# Altium schematic symbol library LISC-XC95144XL.SCHLIB: 17 symbols
Pins are listed as number, name and electrical type; pins without a type are passive.

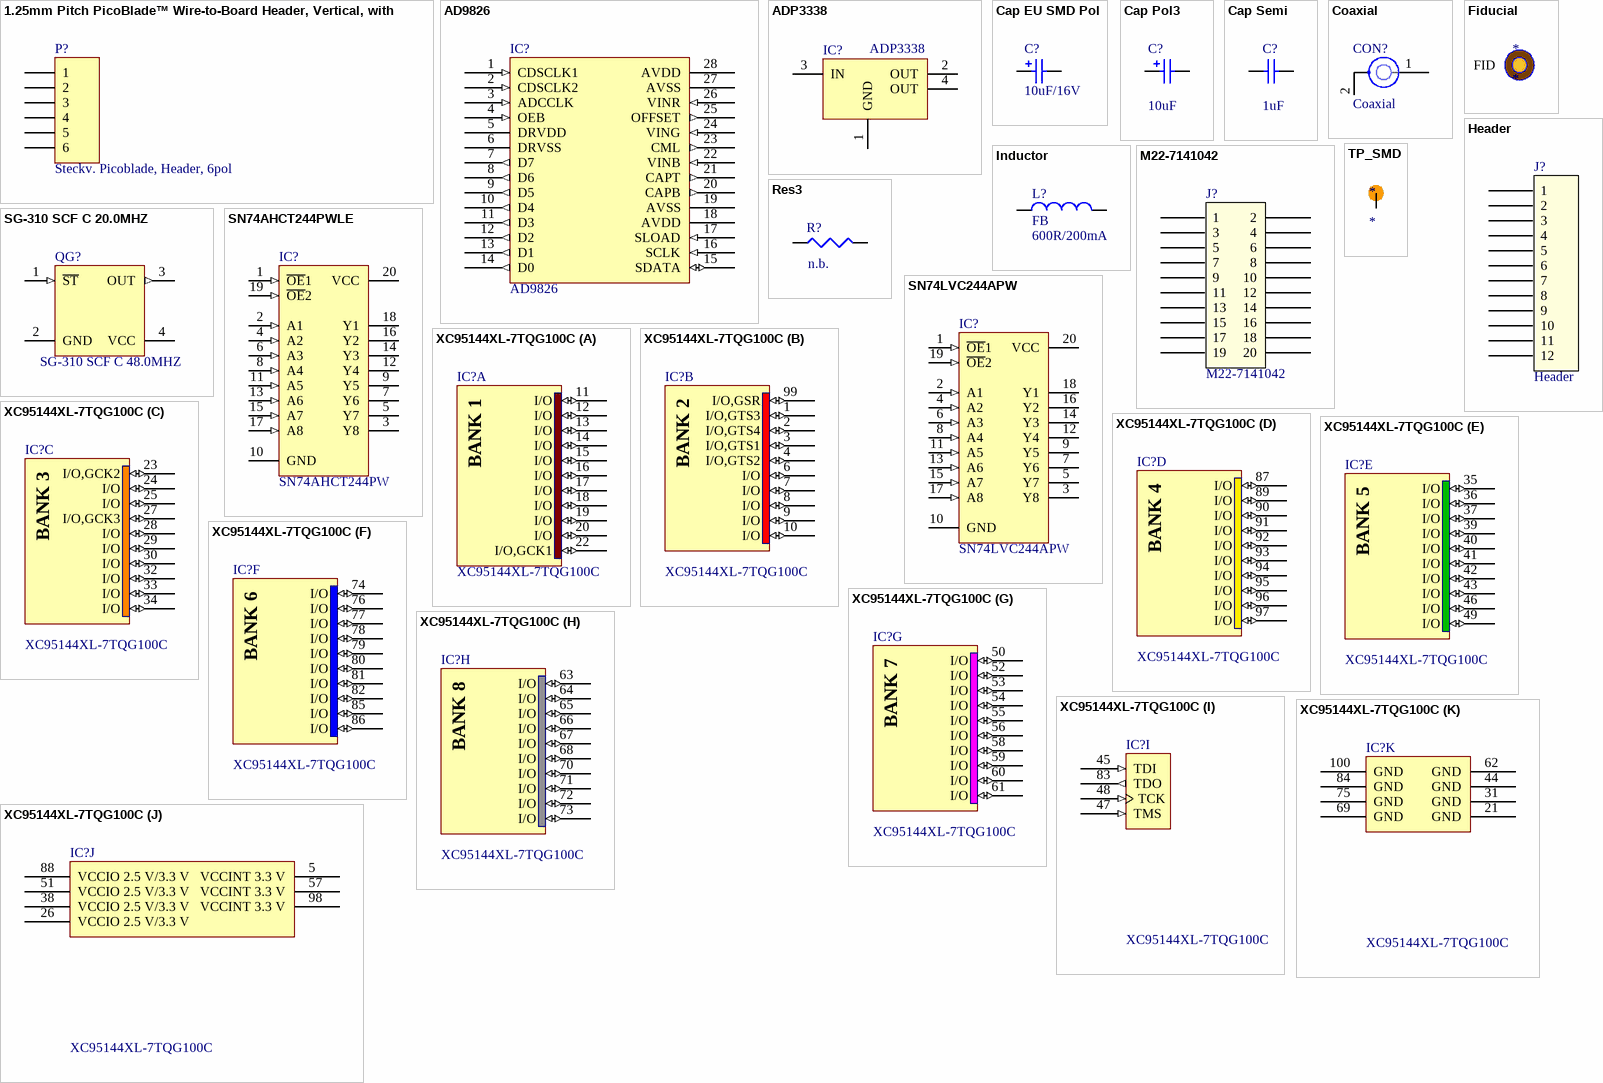
[diagram p0: symbols 1.25mm Pitch PicoBlade™ Wire-to-Board Header, Vertical, with Friction Lock, 6 Circuits to XC95144XL-7TQG100C]

## 1.25mm Pitch PicoBlade™ Wire-to-Board Header, Vertical, with Friction Lock, 6 Circuits
designator P?, comment Steckv. Picoblade, Header, 6pol
MOLEX - 53047-0610 - STECKER,VERTIKAL,6KONT; Steckverbindertyp: Draht zu Platine; Kontaktanschluss: Durchsteckmontage, vertikal; Kontakte, Anzahl der: 6; Reihen, Anzahl der: 1; Raster: 1.25; Kontaktüberzug: Zinn; Kontaktmaterial: Phosphor-Bronze; Anschlussart: Lötmittel; Gehäusetyp: GF Nylon UL94V-0; Isolations-Widerstand: 100; Länge/Höhe, Außen-: 3.5; Min Betriebstemperatur: -40; Spannung, Betriebs-: 125; Spannung, Steh-: 250; Temperatur, Betriebs- max.: 85; Tiefe, Außen: 5.5; Supplier 1: Farnell; Manufacturer: MOLEX; Manufacturer Part Number: 53047-0610; RoHS: YES; Stock 1: 35787; Pricing 1: 5=0,673, 100=0,42, 250=0,358, 500=0,34, 1000=0,311 (EUR); Serie: PicoBlade; Gender: Header; Anschlusstyp: Draht zu Platine; Body Plating: Zinn; Nennstrom: 1; Pole, Anzahl der: 6; Raster, Anschluss: 1.25; Spannung, Nenn-, AC: 125; Wege, Anzahl der: 6; ComponentLink1URL: http://www.farnell.com/cad/694680.pdf; ComponentLink1Description: http://www.farnell.com/cad/694680.pdf; ComponentLink2URL: http://www.farnell.com/datasheets/524695.pdf; ComponentLink2Description: http://www.farnell.com/datasheets/524695.pdf; Supplier Part Number 1: 9733078
footprint PicoBlade Header 6Pin gerade (Steckv. PicoBlade Header 6polig gerade)
pins: 1, 2, 3, 4, 5, 6

## AD9826
designator IC?
footprint SOP65P780-28AM (SOP, 28-Leads, Body 10.2x5.3mm, Pitch 0.65mm, IPC Low Density)
pins: 1 CDSCLK1 (in), 2 CDSCLK2 (in), 3 ADCCLK (in), 4 OEB (in), 5 DRVDD (power), 6 DRVSS (power), 7 D7 (out), 8 D6 (out), 9 D5 (out), 10 D4 (out), 11 D3 (out), 12 D2 (out), 13 D1 (out), 14 D0 (out), 15 SDATA (io), 16 SCLK (in), 17 SLOAD (in), 18 AVDD (power), 19 AVSS (power), 20 CAPB (out), 21 CAPT (out), 22 VINB (in), 23 CML (out), 24 VING (in), 25 OFFSET (out), 26 VINR (in), 27 AVSS (power), 28 AVDD (power)

## ADP3338
designator IC?
High Accuracy, Ultralow IQ, 1 A,  anyCAP® Low Dropout Regulator; Value: ADP3338; Supplier 1: Farnell; Supplier Part Number 1: 1651283
footprint SOT223-4L (SOT223, 4-Leads, Body 6.5x3.5mm, Pitch 2.3mm, Lead Span 7mm, IPC High Density)
pins: 1 GND (power), 2 OUT (power), 3 IN (power), 4 OUT (power)

## Cap EU SMD Pol
designator C?, comment 10uF/16V
Polarized Capacitor (Surface Mount); Value: 10uF; Published: 8-Jun-2000; LatestRevisionDate: 29-May-2009; LatestRevisionNote: IPC-7351 Footprint Added.; PackageReference: C0805; Publisher: Altium Limited; PackageDescription: Chip Capacitor
simulation model CAP (Capacitor)
signal-integrity model Cap Pol
footprint Cap Pol SMD Ø6,3x3,9 (Kondensator Pol SMD Ø6,3mmx3,9mm)
footprint C1210 Pol (Chip Capacitor Pol, Body 3.2x2.5mm, IPC High Density)
pins: 1, 2
1 alternate drawing of the same symbol

## Cap Pol3
designator C?  value 10uF
Polarized Capacitor (Surface Mount); Published: 8-Jun-2000; LatestRevisionDate: 29-May-2009; LatestRevisionNote: IPC-7351 Footprint Added.; PackageReference: C0805; Publisher: Altium Limited; PackageDescription: Chip Capacitor
footprint C0805 (Chip Capacitor, Body 2.0x1.3mm, IPC High Density)
footprint 1812 (Chip Capacitor, Body 4.5x3.2mm, IPC High Density)
footprint 1825 (Chip Capacitor, Body 4.5x6.4mm, IPC High Density)
footprint C2225 (Chip Capacitor, Body 5.7x6.4mm, IPC High Density)
footprint 2220 (Chip Capacitor, Body 5.7x5.0mm, IPC High Density)
simulation model CAP (Capacitor)
signal-integrity model Cap Pol
pins: 1, 2
1 alternate drawing of the same symbol

## Cap Semi
designator C?  value 1uF
Capacitor (Semiconductor SIM Model); Published: 8-Jun-2000; LatestRevisionDate: 29-May-2009; LatestRevisionNote: IPC-7351 Footprint Added.; PackageReference: C1206; Publisher: Altium Limited; PackageDescription: Chip Capacitor
footprint C1206 (Chip Capacitor, Body 3.2x1.6mm, IPC High Density)
footprint 0402 (Chip Capacitor, Body 1.0x0.5mm, IPC High Density)
footprint C2512 (Chip Capacitor, Body 2.54x1.27mm, IPC High Density)
footprint 1608[0603] (Chip Capacitor, Body 1.6x0.8mm, IPC High Density)
footprint C1210 (Chip Capacitor, Body 3.2x2.5mm, IPC High Density)
simulation model CAP (Semiconductor Capacitor)
signal-integrity model Cap Semi
pins: 1, 2

## Coaxial
designator CON?
footprint U.FL-R-SMT
pins: 1, 2

## Fiducial
designator *
footprint FIDUCIAL_ROUND_1MM (Round, 1mm dia)
pins: FID (in)

## Header
designator J?
Molex Picoflex 12pol.
footprint Molex_Picoflex_12
pins: 1, 2, 3, 4, 5, 6, 7, 8, 9, 10, 11, 12

## Inductor
designator L?, comment FB  value 600R/200mA
Inductor; Code_IEC: 1005; Published: 8-Jun-2000; LatestRevisionDate: 29-May-2009; LatestRevisionNote: IPC-7351 Footprint Added.; PackageReference: 0402-A; Publisher: Altium Limited; PackageDescription: Chip Inductor; Code_JEITA: 0402
footprint 0402-A (Chip Inductor, Body 1.0x0.5mm, IPC High Density)
footprint INDC1608L (Chip Inductor, Body 1.6x0.8mm, IPC High Density)
footprint 2029 (Chip Inductor, Body 2.0x1.2mm, IPC High Density)
footprint 0603 (Chip Inductor, Body 0.6x0.3mm, IPC High Density)
footprint INDC3216 (Chip Inductor, Body 3.2x1.6mm, IPC High Density)
footprint INDC4532 (Chip Inductor, Body 4.5x3.2mm, IPC High Density)
simulation model INDUCTOR (Inductor)
signal-integrity model Inductor
pins: 1, 2

## M22-7141042
designator J?
Harwig M22-7141042
footprint PCBComponent_1
pins: 1, 2, 3, 4, 5, 6, 7, 8, 9, 10, 11, 12, 13, 14, 15, 16, 17, 18, 19, 20

## Res3
designator R?  value n.b.
Resistor; Published: 8-Jun-2000; LatestRevisionDate: 29-May-2009; LatestRevisionNote: IPC-7351 Footprint Added.; PackageReference: J1-0603; Publisher: Altium Limited; PackageDescription: Chip Resistor
footprint J1-0603 (Chip Resistor, Body 1.6x0.8mm, IPC High Density)
footprint 14-1210 (Chip Resistor, Body 3.2x2.5mm, IPC High Density)
footprint 12Z-2010 (Chip Resistor, Body 5.0x2.5mm, IPC High Density)
footprint RESC6332 (Chip Resistor, Body 6.3x3.2mm, IPC High Density)
simulation model RESISTOR (Resistor)
signal-integrity model Res
pins: 1, 2

## SG-310 SCF C 20.0MHZ
designator QG?, comment SG-310 SCF C 48.0MHZ
EPSON TOYOCOM - SG-310 SCF C 20.0MHZ - OSZILLATOR, SM 3,2X2,5MM 20,0MHZ; Supplier 1: Farnell; Manufacturer: EPSON TOYOCOM; Manufacturer Part Number: SG-310 SCF C 20.0MHZ; RoHS: YES; Stock 1: 1225; Pricing 1: 1=3,39, 10=2,77, 100=2,39, 250=2,04, 500=1,97 (EUR); ComponentLink1URL: http://www.farnell.com/datasheets/57484.pdf; ComponentLink1Description: http://www.farnell.com/datasheets/57484.pdf; Supplier Part Number 1: 1278064
footprint SG-310_Series
pins: 1 ~{ST} (in) "OE or \ST", 2 GND (power), 3 OUT (out), 4 VCC (power)

## SN74AHCT244PWLE
designator IC?, comment SN74AHCT244PW
Octal Buffer/Driver with 3-State Outputs; ComponentAvailability: Obsolete; Published: 8-Jun-2000; LatestRevisionDate: 16-Oct-2006; LatestRevisionNote: IPC-7351 Footprint Added.; DatasheetVersion: Oct-1998; PackageVersion: Feb-1999; PackageReference: PW020; Publisher: Altium Limited; PackageDescription: 20-Pin Thin Small Outline Package 0.65 mm Pitch; ComponentLink1Description: Manufacturer Link; ComponentLink1URL: http://www.ti.com/; ComponentLink2Description: Datasheet; ComponentLink2URL: http://www-s.ti.com/sc/ds/sn74ahct244.pdf
footprint PW020_N (TSOP, 20-Leads, Body 6.5x4.4mm, Pitch 0.65mm, IPC Medium Density)
footprint PW020_L (TSOP, 20-Leads, Body 6.5x4.4mm, Pitch 0.65mm, IPC High Density)
footprint PW020_M (TSOP, 20-Leads, Body 6.5x4.4mm, Pitch 0.65mm, IPC Low Density)
3D model PW020 (20-Pin Thin Small Outline Package 0.65 mm Pitch)
signal-integrity model SN74AHCT244PWLE
pins: 1 ~{OE}1 (in), 2 A1 (in), 3 Y8 (hiz), 4 A2 (in), 5 Y7 (hiz), 6 A3 (in), 7 Y6 (hiz), 8 A4 (in), 9 Y5 (hiz), 10 GND (power), 11 A5 (in), 12 Y4 (hiz), 13 A6 (in), 14 Y3 (hiz), 15 A7 (in), 16 Y2 (hiz), 17 A8 (in), 18 Y1 (hiz), 19 ~{OE}2 (in), 20 VCC (power)

## SN74LVC244APW
designator IC?
Octal Buffer/Driver with 3-State Outputs; Published: 8-Jun-2000; LatestRevisionDate: 16-Oct-2006; LatestRevisionNote: IPC-7351 Footprint Added.; DatasheetVersion: Apr-1999; PackageVersion: Feb-1999; PackageReference: PW020; Publisher: Altium Limited; PackageDescription: 20-Pin Thin Small Outline Package 0.65 mm Pitch; ComponentLink1Description: Manufacturer Link; ComponentLink1URL: http://www.ti.com/; ComponentLink2Description: Datasheet; ComponentLink2URL: http://www-s.ti.com/sc/ds/sn74lvc244a.pdf
footprint PW020_N (TSOP, 20-Leads, Body 6.5x4.4mm, Pitch 0.65mm, IPC Medium Density)
footprint PW020_L (TSOP, 20-Leads, Body 6.5x4.4mm, Pitch 0.65mm, IPC High Density)
footprint PW020_M (TSOP, 20-Leads, Body 6.5x4.4mm, Pitch 0.65mm, IPC Low Density)
3D model PW020 (20-Pin Thin Small Outline Package 0.65 mm Pitch)
signal-integrity model SN74LVC244APW
pins: 1 ~{OE}1 (in), 2 A1 (in), 3 Y8 (hiz), 4 A2 (in), 5 Y7 (hiz), 6 A3 (in), 7 Y6 (hiz), 8 A4 (in), 9 Y5 (hiz), 10 GND (power), 11 A5 (in), 12 Y4 (hiz), 13 A6 (in), 14 Y3 (hiz), 15 A7 (in), 16 Y2 (hiz), 17 A8 (in), 18 Y1 (hiz), 19 ~{OE}2 (in), 20 VCC (power)

## TP_SMD
designator *
footprint TP100_200_NS (1mm dia pad, 2mm dia clearance, no silk screen)
pins: 1

## XC95144XL-7TQG100C
designator IC?
FastFLASH XC900XL, 3.3V High-Performance CPLD with 144 Macrocells, 100-Pin TQFP, Commercial Grade, Pb-Free; Published: 8-Sep-2006; DatasheetVersion: ver1.9, Mar-2006; PackageVersion: ver1.2, Jun-2004; PackageReference: TQG100; Publisher: Altium Limited; PackageDescription: 100-Pin Thin Quad Flat Pack (TQG100) - Pb-Free; ComponentLink1Description: Manufacturer Link; ComponentLink1URL: http://www.xilinx.com/products/silicon_solutions/cplds/xc9500_series/xc9500xl/index.htm; ComponentLink2Description: Datasheet; ComponentLink2URL: http://direct.xilinx.com/bvdocs/publications/ds056.pdf
footprint TQG100_N (Thin QFP, 100-Leads, Body 14x14mm, Pitch 0.5mm, IPC Medium Density)
footprint TQG100_L (Thin QFP, 100-Leads, Body 14x14mm, Pitch 0.5mm, IPC High Density)
footprint TQG100_M (Thin QFP, 100-Leads, Body 14x14mm, Pitch 0.5mm, IPC Low Density)
3D model XC95144XL-TQ100 (100-Pin Thin Quad Flat Pack (TQG100) - Pb-Free)
signal-integrity model XC95144XL_TQ100 (XC9500XL)
part A pins: 11 I/O (io), 12 I/O (io), 13 I/O (io), 14 I/O (io), 15 I/O (io), 16 I/O (io), 17 I/O (io), 18 I/O (io), 19 I/O (io), 20 I/O (io), 22 I/O,GCK1 (io)
part B pins: 1 I/O,GTS3 (io), 2 I/O,GTS4 (io), 3 I/O,GTS1 (io), 4 I/O,GTS2 (io), 6 I/O (io), 7 I/O (io), 8 I/O (io), 9 I/O (io), 10 I/O (io), 99 I/O,GSR (io)
part C pins: 23 I/O,GCK2 (io), 24 I/O (io), 25 I/O (io), 27 I/O,GCK3 (io), 28 I/O (io), 29 I/O (io), 30 I/O (io), 32 I/O (io), 33 I/O (io), 34 I/O (io)
part D pins: 87 I/O (io), 89 I/O (io), 90 I/O (io), 91 I/O (io), 92 I/O (io), 93 I/O (io), 94 I/O (io), 95 I/O (io), 96 I/O (io), 97 I/O (io)
part E pins: 35 I/O (io), 36 I/O (io), 37 I/O (io), 39 I/O (io), 40 I/O (io), 41 I/O (io), 42 I/O (io), 43 I/O (io), 46 I/O (io), 49 I/O (io)
part F pins: 74 I/O (io), 76 I/O (io), 77 I/O (io), 78 I/O (io), 79 I/O (io), 80 I/O (io), 81 I/O (io), 82 I/O (io), 85 I/O (io), 86 I/O (io)
part G pins: 50 I/O (io), 52 I/O (io), 53 I/O (io), 54 I/O (io), 55 I/O (io), 56 I/O (io), 58 I/O (io), 59 I/O (io), 60 I/O (io), 61 I/O (io)
part H pins: 63 I/O (io), 64 I/O (io), 65 I/O (io), 66 I/O (io), 67 I/O (io), 68 I/O (io), 70 I/O (io), 71 I/O (io), 72 I/O (io), 73 I/O (io)
part I pins: 45 TDI (in), 47 TMS (in), 48 TCK (in), 83 TDO (out)
part J pins: 5 VCCINT 3.3 V (power), 26 VCCIO 2.5 V/3.3 V (power), 38 VCCIO 2.5 V/3.3 V (power), 51 VCCIO 2.5 V/3.3 V (power), 57 VCCINT 3.3 V (power), 88 VCCIO 2.5 V/3.3 V (power), 98 VCCINT 3.3 V (power)
part K pins: 21 GND (power), 31 GND (power), 44 GND (power), 62 GND (power), 69 GND (power), 75 GND (power), 84 GND (power), 100 GND (power)
part A text: BANK 1
part B text: BANK 2
part C text: BANK 3
part D text: BANK 4
part E text: BANK 5
part F text: BANK 6
part G text: BANK 7
part H text: BANK 8